# Altium footprint library 47346-0001.PcbLib: 1 footprints
Each footprint in its own frame and in the unit in brackets; x right, y up, seen from the top. Pads: shape width x height; smd on the part's side, far side on the other; paste and mask are expansions set on the pad; w line width, h text height; cw(c..) or ccw(c..) is an arc to the next point about the centre after c.
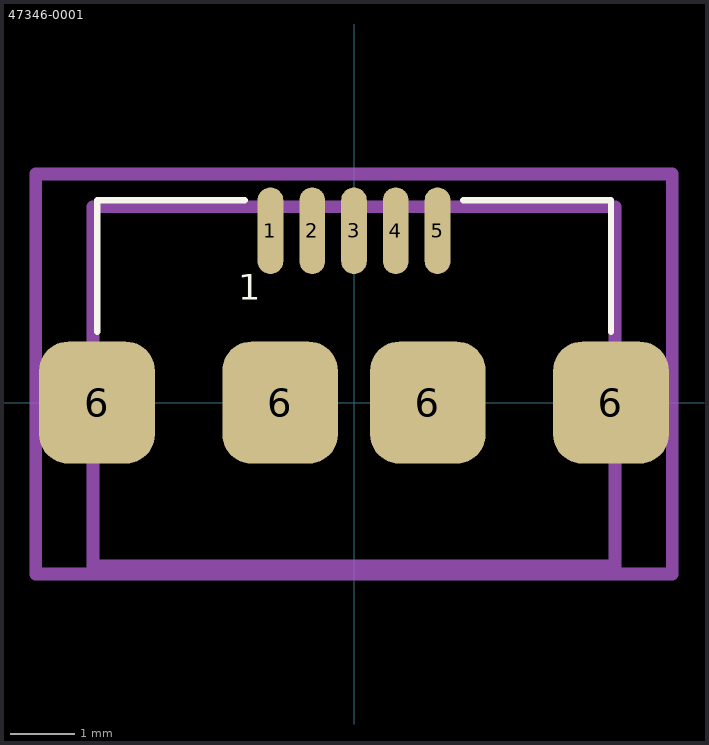
[diagram p0: the footprint, top view; thin cyan lines are the x and y axes]

## 47346-0001 [mm] "Micro USB 5 pin"
pads (9):
  oval 0.4x1.35 smd paste+0 mask+0: 1(-1.3,2.675) 5(1.3,2.675)
  oval 0.4x1.35 smd paste+0 mask+0.05: 2(-0.65,2.675) 3(0,2.675) 4(0.65,2.675)
  rrect50% 1.8x1.9 smd mask+0: 6(-4,0) 6(-1.15,0) 6(1.15,0) 6(4,0)
Top Overlay:
  lines w0.1: -4,1.1 -4,3.15 -1.7,3.15 ; 1.7,3.15 4,3.15 4,1.1
  text "1" at -1.8,1.6 h0.4
Mechanical 2:
  lines w0.2: -4.064,-2.54 -4.064,3.048 4.064,3.048 4.064,-2.54 -4.064,-2.54
Mechanical 4:
  lines w0.2: -4.953,-2.667 -4.953,3.556 4.953,3.556 4.953,-2.667 2.032,-2.667 -4.953,-2.667
3D body "473460001.stp": height 2.67, standoff -0.27, extent -3.99,-2.526 3.99,2.904